# EAGLE library part IPODCON (library connector)
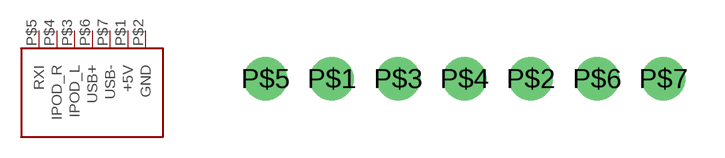
[diagram p2: symbol with the pads of IPODCON; footprint IPODCON]

Designator prefix -

## IPODCON  [IPODCON]
P$1  +5V
P$2  GND
P$3  IPOD_L
P$4  IPOD_R
P$5  RXI
P$6  USB+
P$7  USB-

## Footprint IPODCON (pad centres in mm)
drill 1 pad 1.676: P$1 -2.54,0; P$2 5.08,0; P$3 0,0; P$4 2.54,0; P$5 -5.08,0; P$6 7.62,0; P$7 10.16,0